# EAGLE library part NORDIC-SPARKFUN (library scono)
https://www.sparkfun.com/products/705
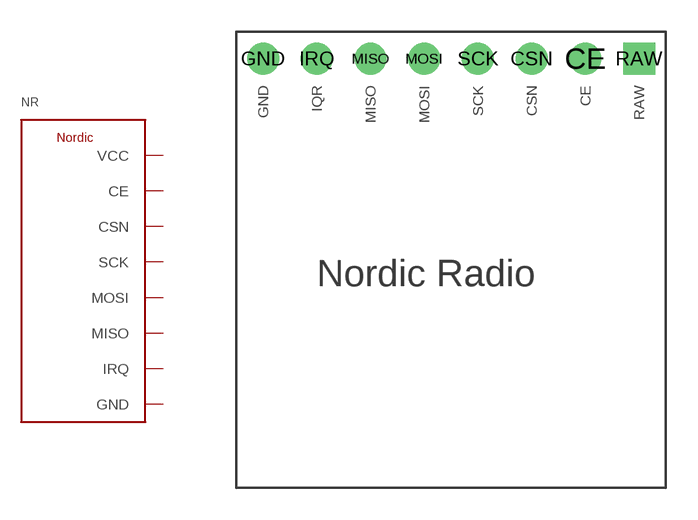
[diagram p34: symbol with the pads of NORDIC-SPARKFUN; footprint NORDIC-SPARKFUN]

Designator prefix NR

## NORDIC-SPARKFUN  [NORDIC-SPARKFUN]
CE  CE
CSN  CSN
GND  GND  pwr
IRQ  IRQ
MISO  MISO
MOSI  MOSI
RAW  VCC  pwr
SCK  SCK

## Footprint NORDIC-SPARKFUN (pad centres in mm)
drill 1: CE 6.35,10.16; CSN 3.81,10.16; GND -8.89,10.16; IRQ -6.35,10.16; MISO -3.81,10.16; MOSI -1.27,10.16; SCK 1.27,10.16
drill 1 square: RAW 8.89,10.16